# EAGLE library part EFM-FIDO_AMS3956 (library USB-A)
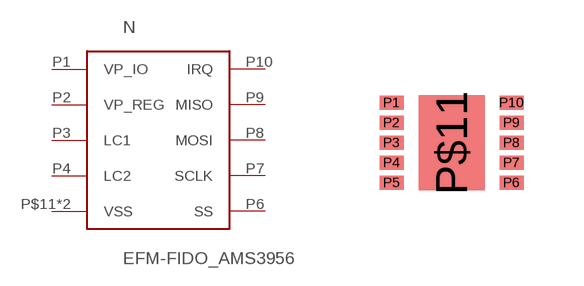
[diagram p0: symbol with the pads of EFM-FIDO_MLPD3X3; footprint EFM-FIDO_MLPD3X3]

Designator prefix N

## EFM-FIDO_AMS3956  [EFM-FIDO_MLPD3X3]
P1  VP_IO
P2  VP_REG
P3  LC1
P4  LC2
P5  VSS
P6  SS
P7  SCLK
P8  MOSI
P9  MISO
P10  IRQ
P$11  VSS

## Footprint EFM-FIDO_MLPD3X3 (pad centres in mm)
smd 0.6 x 0.35: P1 0,-0.54; P2 0,-1.04; P3 0,-1.54; P4 0,-2.04; P5 0,-2.54; P6 3,-2.54; P7 3,-2.04; P8 3,-1.54; P9 3,-1.04; P10 3,-0.54
smd 1.65 x 2.38: P$11 1.5,-1.54